# Altium schematic symbol library SCH - POWER - SWITCHMODE - TI TPS54062_DGK_8.SchLib: 1 symbol
Pins are listed as number, name and electrical type; pins without a type are passive.

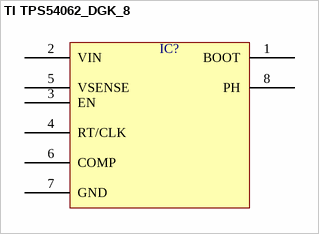
[diagram p0: symbol TI TPS54062_DGK_8]

## TI TPS54062_DGK_8
designator IC?  (value not drawn)
pins: 1 BOOT, 2 VIN, 3 EN, 4 RT/CLK, 5 VSENSE, 6 COMP, 7 GND, 8 PH